# Altium footprint library Miscellaneous_Lib1.PcbLib: 10 footprints
Each footprint in its own frame and in the unit in brackets; x right, y up, seen from the top. Pads: shape width x height; smd on the part's side, far side on the other; paste and mask are expansions set on the pad; w line width, h text height; cw(c..) or ccw(c..) is an arc to the next point about the centre after c.
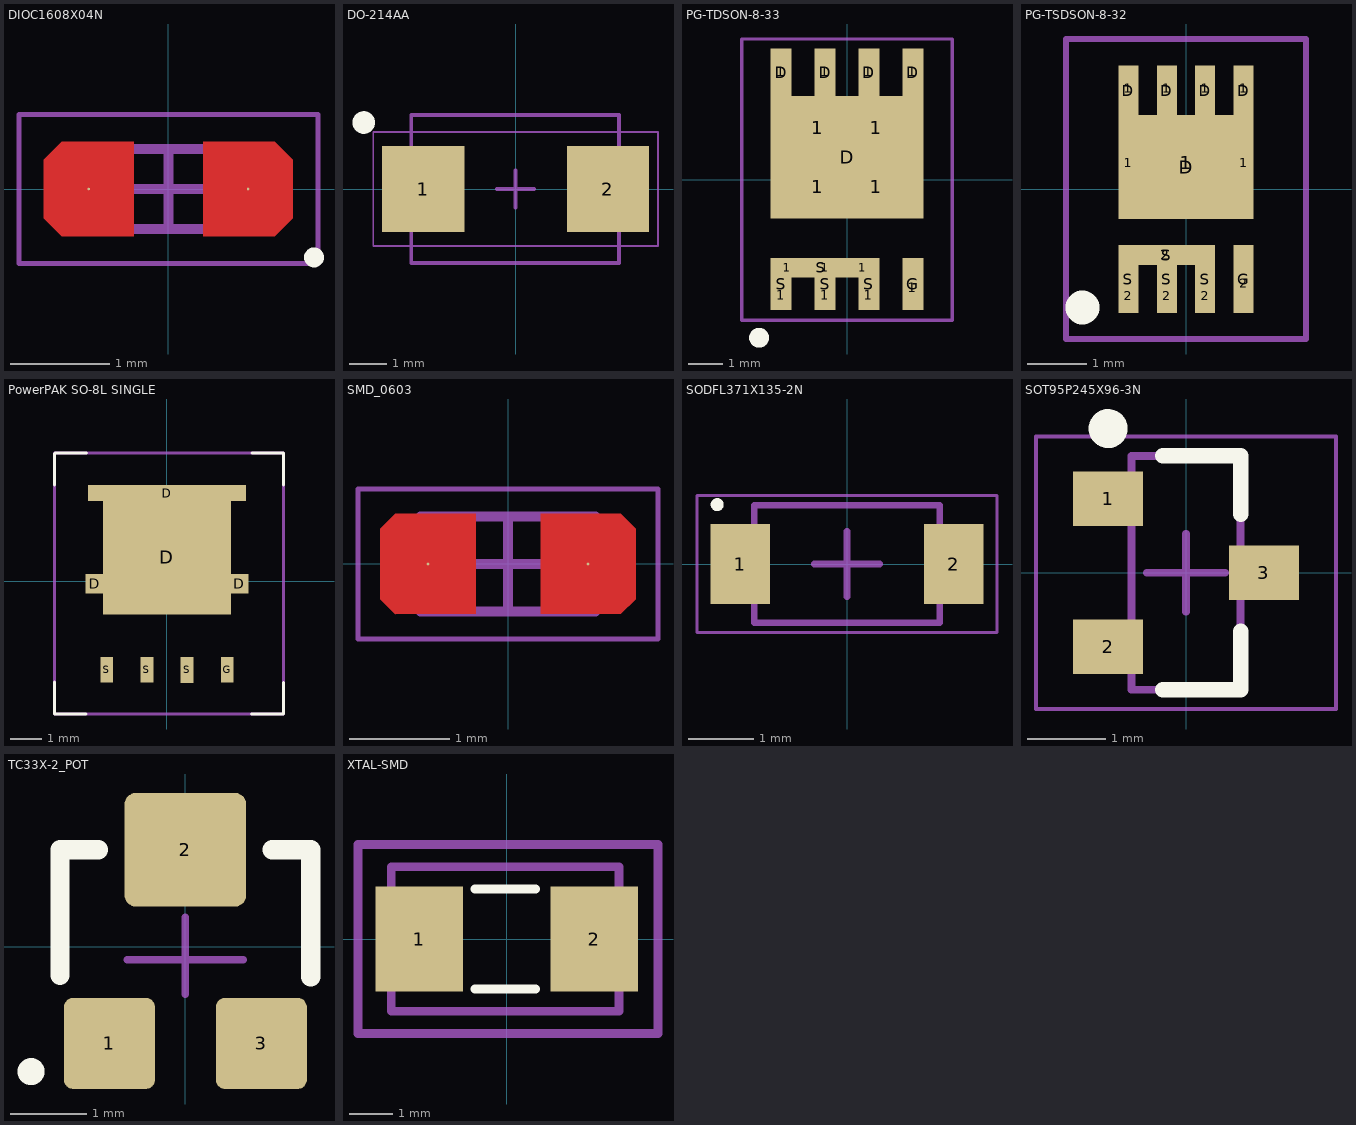
[diagram p0: the footprints below, top view; thin cyan lines are the x and y axes]

## DIOC1608X04N [mil] "Chip Diode, 2-Leads, Body 1.60x0.80mm, IPC Medium Density"
height 15.75
pads (2):
  round 1 smd: 1(-31.5,0) 2(31.5,0)
Top Layer:
  region: 13.78,-18.7 42.13,-18.7 49.21,-11.61 49.21,11.61 42.13,18.7 13.78,18.7
  region: -49.21,-11.61 -42.13,-18.7 -13.78,-18.7 -13.78,18.7 -42.13,18.7 -49.21,11.61
Top Overlay:
  circle w3.94: c57.56,-27.05 r1.97
Mechanical 13:
  lines w3.94: -31.5,-15.75 31.5,-15.75 31.5,15.75 -31.5,15.75 -31.5,-15.75
Mechanical 15:
  lines w1.97: -59.06,-29.53 59.06,-29.53 59.06,29.53 -59.06,29.53 -59.06,-29.53
  lines w3.94: -15.75,0 15.75,0 ; 0,-15.75 0,15.75
3D body "User Library-LED0603_GREEN.step": height 31.5, standoff 0, extent -31.5,-15.75 31.5,15.75

## DO-214AA [mm]
pads (2):
  rect 2.2x2.3 smd: 1(-2.47,0) 2(2.47,0)
Top Overlay:
  circle w0.3: c-4.064,1.778 r0.152
Mechanical 13:
  lines w0.1: -2.794,-1.981 -2.794,1.981 2.769,1.981 2.769,-1.981 -2.794,-1.981
Mechanical 15:
  lines w0.05: -3.81,-1.524 -3.81,1.524 3.81,1.524 3.81,-1.524 -3.81,-1.524
  lines w0.1: -0.5,0 0.5,0 ; 0,-0.5 0,0.5
3D body "TPSMBSeries_LTF.step": height 2.49, standoff 0, extent -2.794,-1.968 2.794,1.968

## PG-TDSON-8-33 [mm] "5.48x5.15"
pads (25):
  rect 0.5x0.75 on Top Paste: 1(-1.905,-3.345) 1(-0.635,-3.345) 1(0.635,-3.345)
  rect 0.5x1.2 on Top Paste: 1(-1.905,3.12) 1(-0.635,3.12) 1(0.635,3.12) 1(1.905,-3.12) 1(1.905,3.12)
  rect 0.85x0.45 on Top Paste: 1(-1.73,-2.545) 1(-0.635,-2.545) 1(0.46,-2.545)
  rect 1.5x1.5 on Top Paste: 1(-0.85,-0.205) 1(-0.85,1.495) 1(0.85,-0.205) 1(0.85,1.495)
  rect 0.6x1.4 smd paste-1: D(-1.905,3.095) D(-0.635,3.095) D(0.635,3.095) D(1.905,3.095)
  rect 4.41x3.545 smd paste-2539.97: D(0,0.647)
  rect 0.6x1.5 smd paste-1: G(1.905,-3.02) S(-1.905,-3.02) S(-0.635,-3.02) S(0.635,-3.02)
  rect 2.805x0.565 smd paste-1: S(-0.762,-2.552)
Top Overlay:
  circle w0.5: c-2.54,-4.572 r0.036
Mechanical 15:
  lines w0.1: -3.048,-4.064 3.048,-4.064 3.048,4.064 -3.048,4.064 -3.048,-4.064
3D body "Infineon-STP_PG-TDSON-8-33-P-v01_00-EN.stp": height 1.01, standoff 0, extent -2.705,-3.22 2.705,3.22

## PG-TSDSON-8-32 [mm]
pads (22):
  rrect50% 0.28x1.25 on Top Paste: 1(-0.975,0.445) 1(0.975,0.445)
  rrect50% 0.28x0.72 on Top Paste: 1(-0.975,1.71) 1(-0.325,1.71) 1(0.325,1.71) 1(0.975,1.71)
  rrect50% 1.25x1.11 on Top Paste: 1(0,0.445)
  rrect50% 0.28x0.52 on Top Paste: 2(-0.975,-1.81) 2(-0.325,-1.81) 2(0.325,-1.81)
  rrect50% 1.58x0.32 on Top Paste: 2(-0.356,-1.118)
  rrect50% 0.28x0.95 on Top Paste: 2(0.975,-1.595)
  rect 0.34x0.85 smd paste-1: D(-0.975,1.665) D(-0.325,1.665) D(0.325,1.665) D(0.975,1.665)
  rect 2.29x1.76 smd paste-1: D(0,0.37)
  rect 0.34x1.15 smd paste-1: G(0.975,-1.525) S(-0.975,-1.525) S(-0.325,-1.525) S(0.325,-1.525)
  rect 1.15x0.34 smd paste-1: S(-0.33,-1.12)
Top Overlay:
  circle w0.5: c-1.753,-2.007 r0.036
Mechanical 15:
  lines w0.1: -2.032,-2.54 2.032,-2.54 2.032,2.54 -2.032,2.54 -2.032,-2.54
3D body "IAUZ30N10S5L240ATMA1--3DModel-STEP-510211.STEP": height 1.15, standoff 0, extent -1.649,-1.599 1.651,1.701

## PowerPAK SO-8L SINGLE [mm]
pads (8):
  rrect0% 0.595x0.61 smd: D(-2.286,-0.076) D(2.286,-0.076)
  rrect0% 4.061x3.63 smd: D(0,0.762)
  rrect10% 5x0.51 smd: D(0,2.794)
  rrect0% 0.41x0.82 smd: G(1.905,-2.791) S(-1.905,-2.791) S(-0.635,-2.791) S(0.635,-2.794)
Top Overlay:
  lines w0.1: -3.556,-4.191 -2.556,-4.191 ; -3.556,-4.175 -3.556,-3.175 ; -3.556,3.048 -3.556,4.048 ; -3.54,4.064 -2.54,4.064 ; 2.667,-4.191 3.667,-4.191 ; 2.683,4.064 3.683,4.064 ; 3.683,-4.191 3.683,-3.191 ; 3.683,3.048 3.683,4.048
Mechanical 15:
  lines w0.1: -3.556,-4.191 -3.556,4.064 3.683,4.064 3.683,-4.191 -3.556,-4.191
3D body "TO_0EP-T1_BE3_VIS.step": height 1.2, standoff 0, extent -2.54,-3.15 2.54,3.657

## SMD_0603 [mil]
pads (2):
  round 1 smd: 1(-31.5,0) 2(31.5,0)
Top Layer:
  region: 12.8,-19.69 12.8,19.69 44.31,19.69 50.2,13.8 50.2,-13.8 44.31,-19.69
  region: -50.2,-13.8 -50.2,13.8 -44.31,19.69 -12.8,19.69 -12.8,-19.69 -44.31,-19.69
Mechanical 13:
  lines w3.94: -34.45,-18.7 34.45,-18.7 34.45,18.7 -34.45,18.7 -34.45,-18.7
Mechanical 15:
  lines w1.97: -59.06,-29.53 59.06,-29.53 59.06,29.53 -59.06,29.53 -59.06,-29.53
  lines w3.94: -18.7,0 18.7,0 ; 0,-18.7 0,18.7
3D body "User Library-CR1608-0603.step": height 17.72, standoff 0, extent -31.5,-15.75 31.5,15.75

## SODFL371X135-2N [mm] "SODFL, 2-Leads, Body 1.60x3.71mm, IPC Medium Density"
height 1.35
pads (2):
  rect 0.91x1.22 smd: 1(-1.635,0) 2(1.635,0)
Top Overlay:
  circle w0.1: c-1.99,0.91 r0.05
Mechanical 13:
  lines w0.1: -1.42,-0.9 -1.42,0.9 1.42,0.9 1.42,-0.9 -1.42,-0.9
Mechanical 15:
  lines w0.05: -2.3,-1.05 -2.3,1.05 2.3,1.05 2.3,-1.05 -2.3,-1.05
  lines w0.1: -0.5,0 0.5,0 ; 0,-0.5 0,0.5
3D body "SOD-123_ONS.step": height 1.35, standoff 0, extent -1.93,-0.904 1.93,0.9

## SOT95P245X96-3N [mm] "SOT23, 3-Leads, Body 2.90x2.45mm, Pitch 0.95mm, IPC Medium Density"
height 0.96
pads (3):
  rect 0.9x0.7 smd: 1(-1,0.95) 2(-1,-0.95) 3(1,0)
Top Overlay:
  circle w0.25: c-1,1.85 r0.125
  lines w0.2: -0.3,-1.5 0.7,-1.5 0.7,-0.75 ; -0.3,1.5 0.7,1.5 0.7,0.75
Mechanical 13:
  lines w0.1: -0.7,-1.5 -0.7,1.5 0.7,1.5 0.7,-1.5 -0.7,-1.5
Mechanical 15:
  lines w0.05: -1.925,-1.75 -1.925,1.75 1.925,1.75 1.925,-1.75 -1.925,-1.75
  lines w0.1: -0.5,0 0.5,0 ; 0,-0.5 0,0.5
3D body "SOT95P245X96-3N.step": height 0.96, standoff 0, extent -1.3,-1.5 1.3,1.5

## TC33X-2_POT [mm] "100K_potentiometer_SMD"
pads (3):
  rrect20% 1.2x1.2 smd: 1(-1,-1.275) 3(1,-1.275)
  rrect20% 1.6x1.5 smd: 2(0,1.275)
Top Overlay:
  circle w0.254: c-2.032,-1.646 r0.051
  lines w0.254: -1.651,-0.376 -1.651,1.275 -1.143,1.275 ; 1.143,1.275 1.651,1.275 1.651,-0.401
Mechanical 15:
  lines w0.1: -0.762,-0.175 0.762,-0.175 ; 0,-0.63 0,0.386
3D body "User Library-TC-33X-2.step": height 1.13, standoff -0.02, extent -1.797,-1.849 1.803,2.113

## XTAL-SMD [mm]
pads (2):
  rect 2x2.4 smd: 1(-2,0) 2(2,0)
Top Overlay:
  lines w0.2: -0.73,-1.143 0.667,-1.143 ; -0.73,1.143 0.667,1.143
Mechanical 13:
  lines w0.2: -2.635,-1.651 -2.635,1.651 2.572,1.651 2.572,-1.651 -2.635,-1.651
Mechanical 15:
  lines w0.2: -3.397,-2.159 3.461,-2.159 3.461,-1.079 3.461,1.079 3.461,2.159 -3.397,2.159 -3.397,-2.159
3D body "User Library-GeyerElectronics_KX9B.SLDPRT": height 1.12, standoff 0, extent -2.524,-1.605 2.486,1.605